# Altium footprint library L293D.PcbLib: 2 footprints
Each footprint in its own frame and in the unit in brackets; x right, y up, seen from the top. Pads: shape width x height; smd on the part's side, far side on the other; paste and mask are expansions set on the pad; w line width, h text height; cw(c..) or ccw(c..) is an arc to the next point about the centre after c.
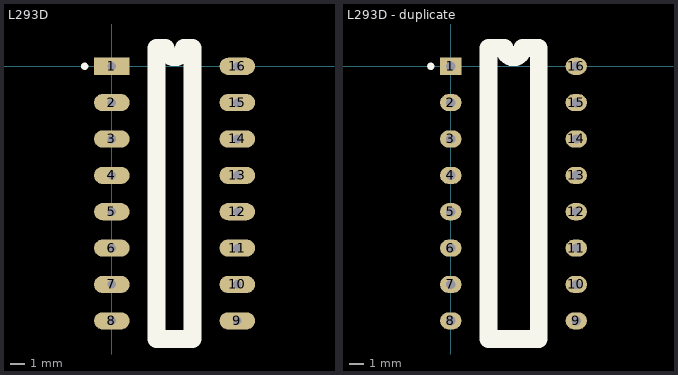
[diagram p0: the footprints below, top view; thin cyan lines are the x and y axes]

## L293D [mm]
pads (16):
  rect 2.5x1.2 hole 0.6: 1(0,0)
  oval 2.5x1.2 hole 0.6: 2(0,-2.55) 3(0,-5.1) 4(0,-7.65) 5(0,-10.2) 6(0,-12.75) 7(0,-15.3) 8(0,-17.85) 9(8.8,-17.85) 10(8.8,-15.3) 11(8.8,-12.75) 12(8.8,-10.2) 13(8.8,-7.65) 14(8.8,-5.1) 15(8.8,-2.55) 16(8.8,0)
Top Overlay:
  circle w0.254: c-1.905,0 r0.127
  lines w1.25: 3.135,-19.125 5.665,-19.125 5.665,1.275 5.037,1.275 cw(c4.4,1.275) 3.762,1.275 3.135,1.275 3.135,-19.125
3D body "MFR-25FBF52-1K--3DModel-STEP-269445.STEP": height 5.1, standoff -3.3, extent -0.302,-18.89 8.938,1.11

## L293D - duplicate [mm]
pads (16):
  rect 1.5x1.2 / inner rect 20x7.1 / far side rect 1.5x1.2 hole 0.65: 1(0,0)
  oval 1.5x1.2 / inner oval 20x7.1 / far side oval 1.5x1.2 hole 0.65: 2(0,-2.55) 3(0,-5.1) 4(0,-7.65) 5(0,-10.2) 6(0,-12.75) 7(0,-15.3) 8(0,-17.85) 9(8.8,-17.85) 10(8.8,-15.3) 11(8.8,-12.75) 12(8.8,-10.2) 13(8.8,-7.65) 14(8.8,-5.1) 15(8.8,-2.55) 16(8.8,0)
Top Overlay:
  circle w0.254: c-1.397,0 r0.127
  lines w1.25: 2.635,-19.125 2.635,1.275 3.762,1.275 ccw(c4.4,1.275) 5.037,1.275 6.165,1.275 6.165,-19.125 2.635,-19.125
3D body "MFR-25FBF52-1K--3DModel-STEP-269445.STEP": height 5.1, standoff -3.3, extent -0.302,-19.017 8.938,0.983